# Altium schematic symbol library CS_Schlib1.SchLib: 64 symbols
Pins are listed as number, name and electrical type; pins without a type are passive.

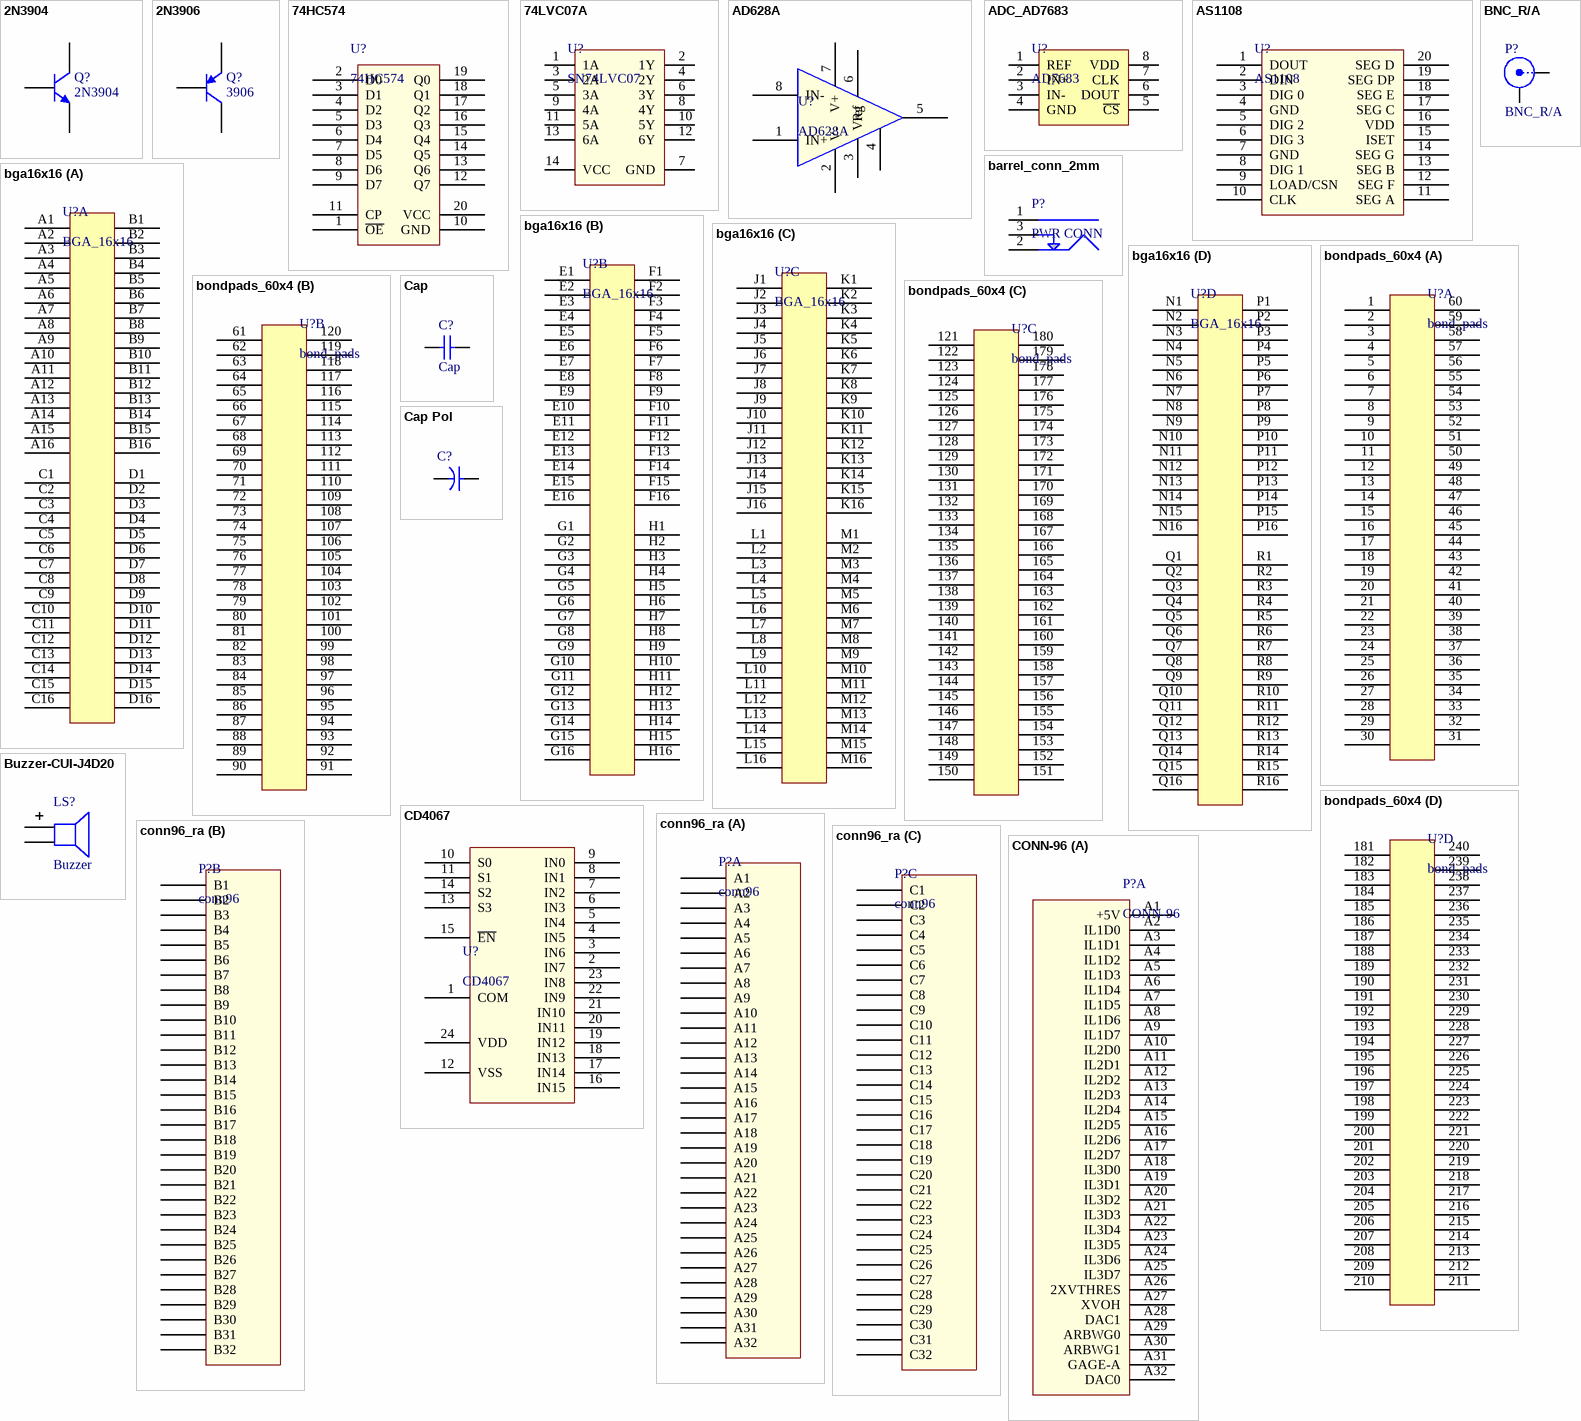
[diagram p0: symbols 2N3904 to CONN-96]

## 2N3904
designator Q?
TRANS NPN 40V 0.2A SOT23; manufacturer: Micro Commercial Co; manufacturer pn: MMBT3904-TP; supplier: digikey; supplier pn: MMBT3904TPMSCT-ND
footprint SOT-23 (Footprint not found)
pins: 1 C, 2 B, 3 E

## 2N3906
designator Q?, comment 3906
TRANS PNP 40V 0.2A SOT23; manufacturer pn: MMBT3906-TP; manufacturer: Micro Commercial Co; supplier pn: MMBT3906-TPCT-ND; supplier: digikey
footprint SOT-23
pins: 1 C, 2 B, 3 E

## 74HC574
designator U?
D-type flip-flop; Octal; manufacturer pn: 74HC574PW,118; manufacturer: Nexperia; supplier pn: 1727-4015-1-ND; supplier: digikey
pins: 1 ~{OE}, 2 D0, 3 D1, 4 D2, 5 D3, 6 D4, 7 D5, 8 D6, 9 D7, 10 GND, 11 CP, 12 Q7, 13 Q6, 14 Q5, 15 Q4, 16 Q3, 17 Q2, 18 Q1, 19 Q0, 20 VCC

## 74LVC07A
designator U?, comment SN74LVC07
IC HEX BUF NON-INVERT 5.5V 14SOIC; manufacturer: Texas Instruments; manufacturer pn: SN74LVC07ADR; supplier pn: 296-8441-1-ND; supplier: digikey
footprint SOIC-14 (SOIC, 14-Leads, Body 8.65x3.9mm, Pitch 1.27mm, IPC Medium Density)
pins: 1 1A, 2 1Y, 3 2A, 4 2Y, 5 3A, 6 3Y, 7 GND, 8 4Y, 9 4A, 10 5Y, 11 5A, 12 6Y, 13 6A, 14 VCC

## AD628A
designator U?
Current Sense Differential Amplifier 600kHz; manufacturer pn: AD628ARZ-RL; manufacturer: Analog Devices; supplier: digikey; supplier pn: AD628ARZ-RLCT-ND
footprint Model Name (Footprint not found)
pins: 1 IN+, 2 V-, 3 Vref, 4 Cf, 5 OUT, 6 Rg, 7 V+, 8 IN-

## ADC_AD7683
designator U?, comment AD7683
IC ADC 16BIT SAR 8MSOP; manufacturer pn: AD7683ARMZRL7; manufacturer: Analog Devices; supplier: digikey; supplier pn: AD7683ARMZRL7CT-ND
footprint MSOP-8
pins: 1 REF, 2 IN+, 3 IN-, 4 GND, 5 ~{CS}, 6 DOUT, 7 CLK, 8 VDD

## AS1108
designator U?
IC DRVR 7 SEGMNT 4 DIGIT 20SOIC; manufacturer: AMS; manufacturer pn: AS1108WL-T; supplier: digikey; supplier pn: AS1108WL-TCT-ND
footprint SOIC-20 (small outline integrated ciecuit 20-pin)
pins: 1 DOUT, 2 DIN, 3 DIG 0, 4 GND, 5 DIG 2, 6 DIG 3, 7 GND, 8 DIG 1, 9 LOAD/CSN, 10 CLK, 11 SEG A, 12 SEG F, 13 SEG B, 14 SEG G, 15 ISET, 16 VDD, 17 SEG C, 18 SEG E, 19 SEG DP, 20 SEG D

## barrel_conn_2mm
designator P?, comment PWR CONN
CONN PWR JACK 2X5.5MM KINKED PIN; manufacturer: CUI Int; manufacturer pn: PJ-202A; supplier: digikey; supplier pn: CP-202A-ND
footprint barrel_conn_2mm (Power Barrel connector Jack 2.0mm ID, 5.5mm OD)
pins: 1 CTR, 2 SHIELD, 3 SENSE

## bga16x16
designator U?, comment BGA_16x16
bga used in wirebonding board
footprint die_balls (pads to be balled on bottom side of die breakout board)
part A pins: A1, A2, A3, A4, A5, A6, A7, A8, A9, A10, A11, A12, A13, A14, A15, A16, B1, B2, B3, B4, B5, B6, B7, B8, B9, B10, B11, B12, B13, B14, B15, B16, C1, C2, C3, C4, C5, C6, C7, C8, C9, C10, C11, C12, C13, C14, C15, C16, D1, D2, D3, D4, D5, D6, D7, D8, D9, D10, D11, D12, D13, D14, D15, D16
part B pins: E1, E2, E3, E4, E5, E6, E7, E8, E9, E10, E11, E12, E13, E14, E15, E16, F1, F2, F3, F4, F5, F6, F7, F8, F9, F10, F11, F12, F13, F14, F15, F16, G1, G2, G3, G4, G5, G6, G7, G8, G9, G10, G11, G12, G13, G14, G15, G16, H1, H2, H3, H4, H5, H6, H7, H8, H9, H10, H11, H12, H13, H14, H15, H16
part C pins: J1, J2, J3, J4, J5, J6, J7, J8, J9, J10, J11, J12, J13, J14, J15, J16, K1, K2, K3, K4, K5, K6, K7, K8, K9, K10, K11, K12, K13, K14, K15, K16, L1, L2, L3, L4, L5, L6, L7, L8, L9, L10, L11, L12, L13, L14, L15, L16, M1, M2, M3, M4, M5, M6, M7, M8, M9, M10, M11, M12, M13, M14, M15, M16
part D pins: N1, N2, N3, N4, N5, N6, N7, N8, N9, N10, N11, N12, N13, N14, N15, N16, P1, P2, P3, P4, P5, P6, P7, P8, P9, P10, P11, P12, P13, P14, P15, P16, Q1, Q2, Q3, Q4, Q5, Q6, Q7, Q8, Q9, Q10, Q11, Q12, Q13, Q14, Q15, Q16, R1, R2, R3, R4, R5, R6, R7, R8, R9, R10, R11, R12, R13, R14, R15, R16

## BNC_R/A
designator P?
CONN BNC RCPT R/A 50 OHM PCB; manufacturer: Molex; manufacturer pn: 0731375003; supplier: digikey; supplier pn: WM5514-ND
footprint BNC_R/A (Right Angle BNC Connector PCB Mount)
pins: 1 PIN, 2 SHIELD

## bondpads_60x4
designator U?, comment bond_pads
wirebond pads 3mil x 5mil arranged in a square
footprint wirebond_pads_4x60 (group of 4x60 wirebond pads 5mil wide, 3mil high, 3mil spacing)
part A pins: 1, 2, 3, 4, 5, 6, 7, 8, 9, 10, 11, 12, 13, 14, 15, 16, 17, 18, 19, 20, 21, 22, 23, 24, 25, 26, 27, 28, 29, 30, 31, 32, 33, 34, 35, 36, 37, 38, 39, 40, 41, 42, 43, 44, 45, 46, 47, 48, 49, 50, 51, 52, 53, 54, 55, 56, 57, 58, 59, 60
part B pins: 61, 62, 63, 64, 65, 66, 67, 68, 69, 70, 71, 72, 73, 74, 75, 76, 77, 78, 79, 80, 81, 82, 83, 84, 85, 86, 87, 88, 89, 90, 91, 92, 93, 94, 95, 96, 97, 98, 99, 100, 101, 102, 103, 104, 105, 106, 107, 108, 109, 110, 111, 112, 113, 114, 115, 116, 117, 118, 119, 120
part C pins: 121, 122, 123, 124, 125, 126, 127, 128, 129, 130, 131, 132, 133, 134, 135, 136, 137, 138, 139, 140, 141, 142, 143, 144, 145, 146, 147, 148, 149, 150, 151, 152, 153, 154, 155, 156, 157, 158, 159, 160, 161, 162, 163, 164, 165, 166, 167, 168, 169, 170, 171, 172, 173, 174, 175, 176, 177, 178, 179, 180
part D pins: 181, 182, 183, 184, 185, 186, 187, 188, 189, 190, 191, 192, 193, 194, 195, 196, 197, 198, 199, 200, 201, 202, 203, 204, 205, 206, 207, 208, 209, 210, 211, 212, 213, 214, 215, 216, 217, 218, 219, 220, 221, 222, 223, 224, 225, 226, 227, 228, 229, 230, 231, 232, 233, 234, 235, 236, 237, 238, 239, 240

## Buzzer-CUI-J4D20
designator LS?, comment Buzzer
AUDIO MAGNETIC XDCR 3-5V SMD; manufacturer: CUI Devices; manufacturer pn: CSS-J4D20-SMT-TR; supplier pn: 102-1198-1-ND; supplier: digikey
footprint Buzzer_J4D20 (AUDIO MAGNETIC XDCR 3-5V SMD)
pins: 1, 2

## Cap
designator C?
Cap NP
pins: 1, 2

## Cap Pol
designator C?, comment CapPol  (value not drawn)
Cap Polarized
footprint RB7.6-15 (Polarized Capacitor (Radial); 2 Leads)
simulation model CAP (Capacitor)
signal-integrity model Cap Pol
pins: 1, 2
1 alternate drawing of the same symbol

## CD4067
designator U?
IC MUX/DEMUX 1X16 24TSSOP; manufacturer: Texas Instruments; manufacturer pn: CD4067BPWR; supplier: digikey; supplier pn: 296-44349-1-ND
pins: 1 COM, 2 IN7, 3 IN6, 4 IN5, 5 IN4, 6 IN3, 7 IN2, 8 IN1, 9 IN0, 10 S0, 11 S1, 12 VSS, 13 S3, 14 S2, 15 ~{EN}, 16 IN15, 17 IN14, 18 IN13, 19 IN12, 20 IN11, 21 IN10, 22 IN9, 23 IN8, 24 VDD

## conn96_ra
designator P?, comment conn96
connector 96-pin right angle 32x3; manufacturer pn: RE96MSR-062; manufacturer: Vector Electronics; supplier pn: V1235-ND; supplier: digikey
footprint conn-96_RA (96-pin connector, 3 rows, right angle)
part A pins: A1, A2, A3, A4, A5, A6, A7, A8, A9, A10, A11, A12, A13, A14, A15, A16, A17, A18, A19, A20, A21, A22, A23, A24, A25, A26, A27, A28, A29, A30, A31, A32
part B pins: B1, B2, B3, B4, B5, B6, B7, B8, B9, B10, B11, B12, B13, B14, B15, B16, B17, B18, B19, B20, B21, B22, B23, B24, B25, B26, B27, B28, B29, B30, B31, B32
part C pins: C1, C2, C3, C4, C5, C6, C7, C8, C9, C10, C11, C12, C13, C14, C15, C16, C17, C18, C19, C20, C21, C22, C23, C24, C25, C26, C27, C28, C29, C30, C31, C32

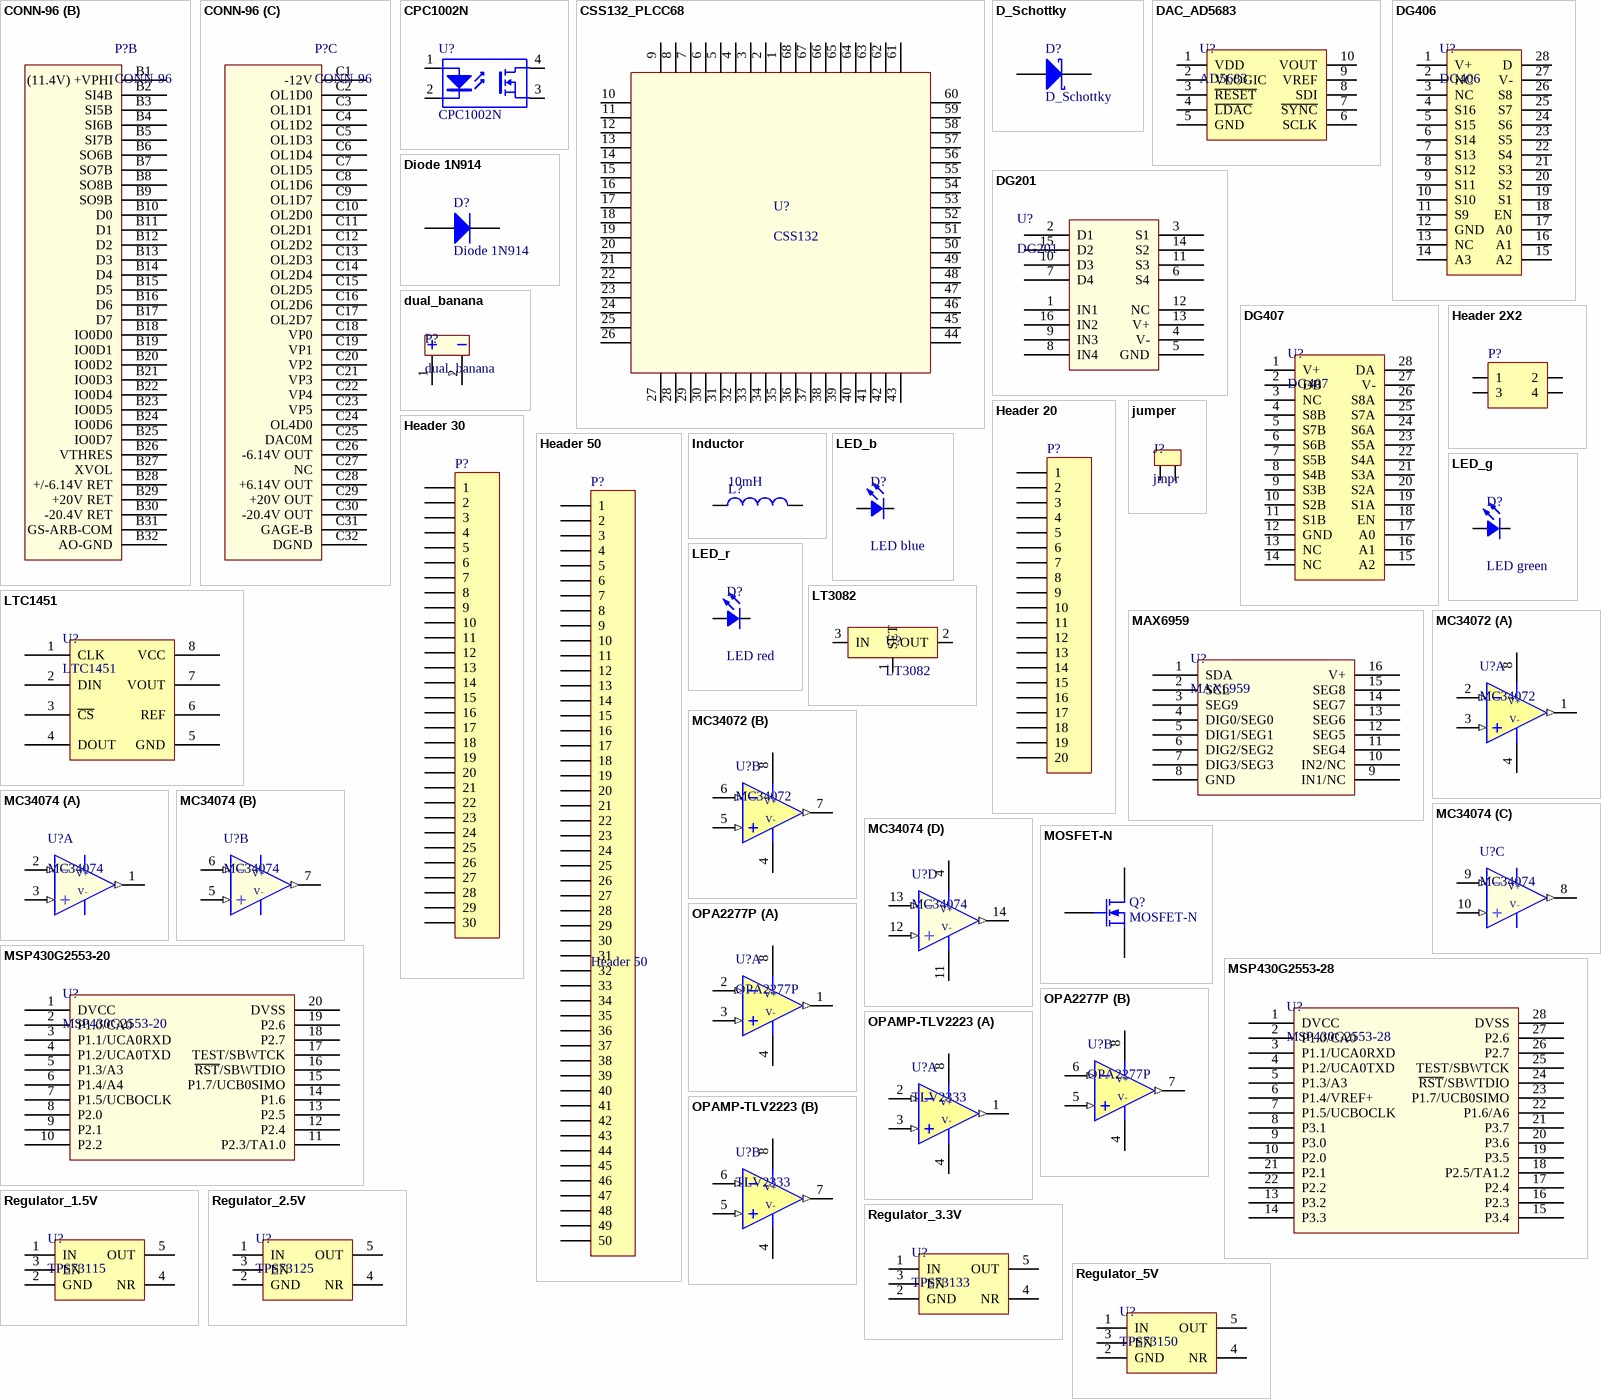
[diagram p1: symbols CONN-96 to Regulator_5V]

## CONN-96
designator P?
connector 96-pin male right angle 32x3; manufacturer pn: RE96MSR-062; manufacturer: Vector Electronics; supplier pn: V1235-ND; supplier: digikey
footprint conn-96_RA (96-pin connector, 3 rows, right angle)
part A pins: A1 +5V, A2 IL1D0, A3 IL1D1, A4 IL1D2, A5 IL1D3, A6 IL1D4, A7 IL1D5, A8 IL1D6, A9 IL1D7, A10 IL2D0, A11 IL2D1, A12 IL2D2, A13 IL2D3, A14 IL2D4, A15 IL2D5, A16 IL2D6, A17 IL2D7, A18 IL3D0, A19 IL3D1, A20 IL3D2, A21 IL3D3, A22 IL3D4, A23 IL3D5, A24 IL3D6, A25 IL3D7, A26 2XVTHRES, A27 XVOH, A28 DAC1, A29 ARBWG0, A30 ARBWG1, A31 GAGE-A, A32 DAC0
part B pins: B1 (11.4V) +VPHI, B2 SI4B, B3 SI5B, B4 SI6B, B5 SI7B, B6 SO6B, B7 SO7B, B8 SO8B, B9 SO9B, B10 D0, B11 D1, B12 D2, B13 D3, B14 D4, B15 D5, B16 D6, B17 D7, B18 IO0D0, B19 IO0D1, B20 IO0D2, B21 IO0D3, B22 IO0D4, B23 IO0D5, B24 IO0D6, B25 IO0D7, B26 VTHRES, B27 XVOL, B28 +/-6.14V RET, B29 +20V RET, B30 -20.4V RET, B31 GS-ARB-COM, B32 AO-GND
part C pins: C1 -12V, C2 OL1D0, C3 OL1D1, C4 OL1D2, C5 OL1D3, C6 OL1D4, C7 OL1D5, C8 OL1D6, C9 OL1D7, C10 OL2D0, C11 OL2D1, C12 OL2D2, C13 OL2D3, C14 OL2D4, C15 OL2D5, C16 OL2D6, C17 OL2D7, C18 VP0, C19 VP1, C20 VP2, C21 VP3, C22 VP4, C23 VP5, C24 OL4D0, C25 DAC0M, C26 -6.14V OUT, C27 NC, C28 +6.14V OUT, C29 +20V OUT, C30 -20.4V OUT, C31 GAGE-B, C32 DGND

## CPC1002N
designator U?
4-Pin Phototransistor Optocoupler; manufacturer: IXYS; supplier pn: CLA221-ND; supplier: digikey; manufacturer pn: CPC1002N
pins: 1 A "Anode", 2 K "Cathode", 3 S "Emitter", 4 D "Collector"

## CSS132_PLCC68
designator U?, comment CSS132
CSS132 gyro ic in a PLCC68 prototyping package; manufacturer: Kyocera Corp; manufacturer pn: CCJ06828; supplier pn: CCJ06828; supplier: Spectrum Semiconductor
footprint socket_PLCC68 (68-pin thru-hole socket for PLCC package)
pins: 1, 2, 3, 4, 5, 6, 7, 8, 9, 10, 11, 12, 13, 14, 15, 16, 17, 18, 19, 20, 21, 22, 23, 24, 25, 26, 27, 28, 29, 30, 31, 32, 33, 34, 35, 36, 37, 38, 39, 40, 41, 42, 43, 44, 45, 46, 47, 48, 49, 50, 51, 52, 53, 54, 55, 56, 57, 58, 59, 60, 61, 62, 63, 64, 65, 66, 67, 68

## D_Schottky
designator D?
DIODE SCHOTTKY 100V 200MA SOD523; manufacturer: Diodes Inc.; manufacturer pn: BAT41KFILM; supplier: digikey; supplier pn: 497-5556-1-ND
footprint SOD-523 (surface mount diode)
pins: 1 A, 2 K

## DAC_AD5683
designator U?, comment AD5683
IC DAC 16BIT V-OUT 10MSOP; manufacturer: Analog Devices; manufacturer pn: AD5683RBRMZ-RL7; supplier: digikey; supplier pn: AD5683RBRMZ-RL7CT-ND
footprint MSOP-10
pins: 1 VDD, 2 VLOGIC, 3 ~{RESET}, 4 ~{LDAC}, 5 GND, 6 SCLK, 7 ~{SYNC}, 8 SDI, 9 VREF, 10 VOUT

## DG201
designator U?
IC SWITCH QUAD SPST 16SOIC; manufacturer: Vishay Siliconix; manufacturer pn: DG201BDY-T1-E3; supplier: digikey; supplier pn: DG201BDY-T1-E3CT-ND
pins: 1 IN1, 2 D1, 3 S1, 4 V-, 5 GND, 6 S4, 7 D4, 8 IN4, 9 IN3, 10 D3, 11 S3, 12 NC, 13 V+, 14 S2, 15 D2, 16 IN2

## DG406
designator U?
IC MULTIPLEXER 16X1 28SOIC; manufacturer: Renesas Electronics; manufacturer pn: DG406DYZ-T; supplier: digikey; supplier pn: DG406DYZ-TCT-ND
footprint SOIC-28
pins: 1 V+, 2 NC, 3 NC, 4 S16, 5 S15, 6 S14, 7 S13, 8 S12, 9 S11, 10 S10, 11 S9, 12 GND, 13 NC, 14 A3, 15 A2, 16 A1, 17 A0, 18 EN, 19 S1, 20 S2, 21 S3, 22 S4, 23 S5, 24 S6, 25 S7, 26 S8, 27 V-, 28 D

## DG407
designator U?
IC MULTIPLEXER DUAL 8X1 28SOIC; manufacturer: Renesas Electronics; manufacturer pn: DG407DYZ; supplier: digikey; supplier pn: DG407DYZ-ND
footprint SOIC-28
pins: 1 V+, 2 DB, 3 NC, 4 S8B, 5 S7B, 6 S6B, 7 S5B, 8 S4B, 9 S3B, 10 S2B, 11 S1B, 12 GND, 13 NC, 14 NC, 15 A2, 16 A1, 17 A0, 18 EN, 19 S1A, 20 S2A, 21 S3A, 22 S4A, 23 S5A, 24 S6A, 25 S7A, 26 S8A, 27 V-, 28 DA

## Diode 1N914
designator D?
DIODE GEN PURP 100V 200MA SOT23; manufacturer: On Semiconductor; manufacturer pn: MMBD914LT3G; supplier pn: MMBD914LT3GOSCT-ND; supplier: digikey
footprint SOT-23
simulation model 1N914 (DIODE)
pins: 1 K, 2 A

## dual_banana
designator P?
dual banana jack; bolt-on; manufacturer: Mueller Electric Co; manufacturer pn: BU-P2269; supplier: digikey; supplier pn: 314-1204-ND
pins: 1, 2

## Header 2X2
designator P?
Header, 2-Pin, Dual row; LatestRevisionDate: 17-Jul-2002; LatestRevisionNote: Re-released for DXP Platform.; Publisher: Altium Limited
footprint HDR2X2 (Connector; Header; 2x2 Position)
signal-integrity model Connector
pins: 1, 2, 3, 4

## Header 20
designator P?
Header, 20-Pin; LatestRevisionDate: 17-Jul-2002; LatestRevisionNote: Re-released for DXP Platform.; Publisher: Altium Limited
footprint HDR1X20 (Connector; Header; 20 Position)
signal-integrity model Connector
pins: 1, 2, 3, 4, 5, 6, 7, 8, 9, 10, 11, 12, 13, 14, 15, 16, 17, 18, 19, 20

## Header 30
designator P?
Header, 30-Pin; LatestRevisionDate: 17-Jul-2002; LatestRevisionNote: Re-released for DXP Platform.; Publisher: Altium Limited
footprint HDR1X30 (Connector; Header; 30 Position)
signal-integrity model Connector
pins: 1, 2, 3, 4, 5, 6, 7, 8, 9, 10, 11, 12, 13, 14, 15, 16, 17, 18, 19, 20, 21, 22, 23, 24, 25, 26, 27, 28, 29, 30

## Header 50
designator P?
Header, 50-Pin; LatestRevisionDate: 17-Jul-2002; LatestRevisionNote: Re-released for DXP Platform.; Publisher: Altium Limited
footprint HDR1X30 (Connector; Header; 30 Position)
signal-integrity model Connector
pins: 1, 2, 3, 4, 5, 6, 7, 8, 9, 10, 11, 12, 13, 14, 15, 16, 17, 18, 19, 20, 21, 22, 23, 24, 25, 26, 27, 28, 29, 30, 31, 32, 33, 34, 35, 36, 37, 38, 39, 40, 41, 42, 43, 44, 45, 46, 47, 48, 49, 50

## Inductor
designator L?  value 10mH  (hidden comment: Inductor)
pins: 1, 2

## jumper
designator J?, comment jmpr
2-pin jumper
pins: 1, 2

## LED_b
designator D?, comment LED blue
LED BLUE CLEAR 0603 SMD; manufacturer: Wurth Electronics Inc; manufacturer pn: 150060GS75000; supplier: digikey; supplier pn: 732-4971-1-ND
footprint 0603_d (0603 diode, cathode on pin2)
pins: 1 A, 2 K

## LED_g
designator D?, comment LED green
LED GREEN CLEAR 0603 SMD; manufacturer: Wurth Electronics Inc; manufacturer pn: 150060GS75000; Ibias: ?mA; supplier: digikey; supplier pn: 732-4971-1-ND
footprint 0603_d (0603 diode, cathode on pin2)
pins: 1 A, 2 K

## LED_r
designator D?, comment LED red
LED RED CLEAR 0603 SMD; manufacturer: Wurth Electronics Inc; manufacturer pn: 150060RS75000; supplier: digikey; supplier pn: 732-4978-1-ND
footprint 0603_d (0603 diode, cathode on pin2)
pins: 1 A, 2 K

## LT3082
designator U?
IC REG LIN POS ADJ 200MA SOT223; manufacturer: Linear Technology; manufacturer pn: LT3082EST#TRPBF; supplier: digikey; supplier pn: LT3082EST#TRPBFCT-ND
pins: 1 SET, 2 OUT, 3 IN

## LTC1451
designator U?
IC D/A CONV 12BIT R-R 8-SOIC; manufacturer pn: LTC1451CS8#PBF; manufacturer: Linear Technology; supplier pn: LTC1451CS8#PBF-ND; supplier: digikey
pins: 1 CLK, 2 DIN, 3 ~{CS}, 4 DOUT, 5 GND, 6 REF, 7 VOUT, 8 VCC

## MAX6959
designator U?
IC DRVR 7 SEGMNT 4 DIGIT 16QSOP; manufacturer: Maxim Integrated; manufacturer pn: MAX6959AAEE+; supplier pn: MAX6959AAEE+-ND; supplier: digikey
footprint SOIC-16_W (SOIC 16-pin wide body)
pins: 1 SDA, 2 SCL, 3 SEG9, 4 DIG0/SEG0, 5 DIG1/SEG1, 6 DIG2/SEG2, 7 DIG3/SEG3, 8 GND, 9 IN1/NC, 10 IN2/NC, 11 SEG4, 12 SEG5, 13 SEG6, 14 SEG7, 15 SEG8, 16 V+

## MC34072
designator U?
IC OPAMP GP 4.5MHZ 8SOIC; manufacturer: ON Semiconductor; manufacturer pn: MC34072DR2G; supplier pn: MC34072DR2GOSCT-ND; supplier: digikey
footprint SOIC-8 (SOIC, 8-Leads, Pitch 1.27mm, IPC Medium Density)
part A pins: 1 OUT (out), 2 -IN (in), 3 +IN (in), 4 -VS (power), 8 +VS (power)
part B pins: 4 -VS (power), 5 +IN (in), 6 -IN (in), 7 OUT (out), 8 +VS (power)
part A text: V+; V-
part B text: V+; V-

## MC34074
designator U?
IC OPAMP GP 4.5MHZ 14SOIC; manufacturer: ON Semiconductor; manufacturer pn: MC34074VDR2G; supplier pn: MC34074VDR2GOSCT-ND; supplier: digikey
footprint SOIC-14 (SOIC, 14-Leads, Body 8.65x3.9mm, Pitch 1.27mm, IPC Medium Density)
part A pins: 1 OUT (out), 2 -IN (in), 3 +IN (in)
part B pins: 5 +IN (in), 6 -IN (in), 7 OUT (out)
part C pins: 8 OUT (out), 9 -IN (in), 10 +IN (in)
part D pins: 4 +VS (power), 11 -VS (power), 12 +IN (in), 13 -IN (in), 14 OUT (out)
part A text: V+; V-
part B text: V+; V-
part C text: V+; V-
part D text: V+; V-

## MOSFET-N
designator Q?
MOSFET N-CH 60V 0.2A; manufacturer: Toshiba; manufacturer pn: T2N7002AK,LM; supplier: digikey; supplier pn: T2N7002AKLMCT-ND
footprint SOT-23
pins: 1 D, 2 G, 3 S

## MSP430G2553-20
designator U?
IC MCU 16BIT 16KB FLASH 20TSSOP; manufacturer: Texas Instruments; manufacturer pn: MSP430G2553IPW20R; supplier: digikey; supplier pn: 296-28430-1-ND
footprint TSSOP-20
pins: 1 DVCC, 2 P1.0/CA0, 3 P1.1/UCA0RXD, 4 P1.2/UCA0TXD, 5 P1.3/A3, 6 P1.4/A4, 7 P1.5/UCBOCLK, 8 P2.0, 9 P2.1, 10 P2.2, 11 P2.3/TA1.0, 12 P2.4, 13 P2.5, 14 P1.6, 15 P1.7/UCB0SIMO, 16 ~{RST}/SBWTDIO, 17 TEST/SBWTCK, 18 P2.7, 19 P2.6, 20 DVSS

## MSP430G2553-28
designator U?
IC MCU 16BIT 16KB FLASH 28TSSOP; manufacturer: Texas Instruments; manufacturer pn: MSP430G2553IPW28R; supplier: digikey; supplier pn: 296-28431-1-ND
footprint TSSOP-28
pins: 1 DVCC, 2 P1.0/CA0, 3 P1.1/UCA0RXD, 4 P1.2/UCA0TXD, 5 P1.3/A3, 6 P1.4/VREF+, 7 P1.5/UCBOCLK, 8 P3.1, 9 P3.0, 10 P2.0, 13 P3.2, 14 P3.3, 15 P3.4, 16 P2.3, 17 P2.4, 18 P2.5/TA1.2, 19 P3.5, 20 P3.6, 21 P2.1, 21 P3.7, 22 P1.6/A6, 22 P2.2, 23 P1.7/UCB0SIMO, 24 ~{RST}/SBWTDIO, 25 TEST/SBWTCK, 26 P2.7, 27 P2.6, 28 DVSS

## OPA2277P
designator U?
IC OPAMP GP LOW OFFSET 2 CIRCUIT 8DIP; manufacturer: Texas Instruments; supplier pn: OPA2277P-ND; supplier: digikey; manufacturer pn: OPA2277P
footprint DIP-8 (Footprint not found)
part A pins: 1 OUT (out), 2 -IN (in), 3 +IN (in), 4 -VS (power), 8 +VS (power)
part B pins: 4 -VS (power), 5 +IN (in), 6 -IN (in), 7 OUT (out), 8 +VS (power)
part A text: V+; V-
part B text: V+; V-

## OPAMP-TLV2223
designator U?, comment TLV2333
IC OPAMP ZERO-DRIFT 2 CIRC 8SOIC; manufacturer: Texas Instruments; manufacturer pn: TLV2333IDR; supplier pn: 296-43772-1-ND; supplier: digikey
footprint SOIC-8 (SOIC, 8-Leads, Pitch 1.27mm, IPC Medium Density)
part A pins: 1 OUT (out), 2 -IN (in), 3 +IN (in), 4 -VS (power), 8 +VS (power)
part B pins: 4 -VS (power), 5 +IN (in), 6 -IN (in), 7 OUT (out), 8 +VS (power)
part A text: V+; V-
part B text: V+; V-

## Regulator_1.5V
designator U?, comment TPS73115
IC REG LINEAR 1.5V 150MA SOT23-5; manufacturer: Texas Instruments; manufacturer pn: TPS73115DBVR; supplier: digikey; supplier pn: 296-41769-1-ND
footprint SOT23-5
pins: 1 IN, 2 GND, 3 EN, 4 NR, 5 OUT

## Regulator_2.5V
designator U?, comment TPS73125
IC REG LINEAR 2.5V 150MA SOT23-5; manufacturer: Texas Instruments; manufacturer pn: TPS73125DBVR; supplier: digikey; supplier pn: 296-46391-1-ND
footprint SOT23-5
pins: 1 IN, 2 GND, 3 EN, 4 NR, 5 OUT

## Regulator_3.3V
designator U?, comment TPS73133
IC REG LINEAR 3.3V 150MA SOT23-5; manufacturer: Texas Instruments; manufacturer pn: TPS73133DBVR; supplier: digikey; supplier pn: 296-32553-1-ND
footprint SOT23-5
pins: 1 IN, 2 GND, 3 EN, 4 NR, 5 OUT

## Regulator_5V
designator U?, comment TPS73150
IC REG LINEAR 5V 150MA SOT23-5; manufacturer: Texas Instruments; manufacturer pn: TPS73150DBVR; supplier: digikey; supplier pn: 296-44366-1-ND
footprint SOT23-5
pins: 1 IN, 2 GND, 3 EN, 4 NR, 5 OUT

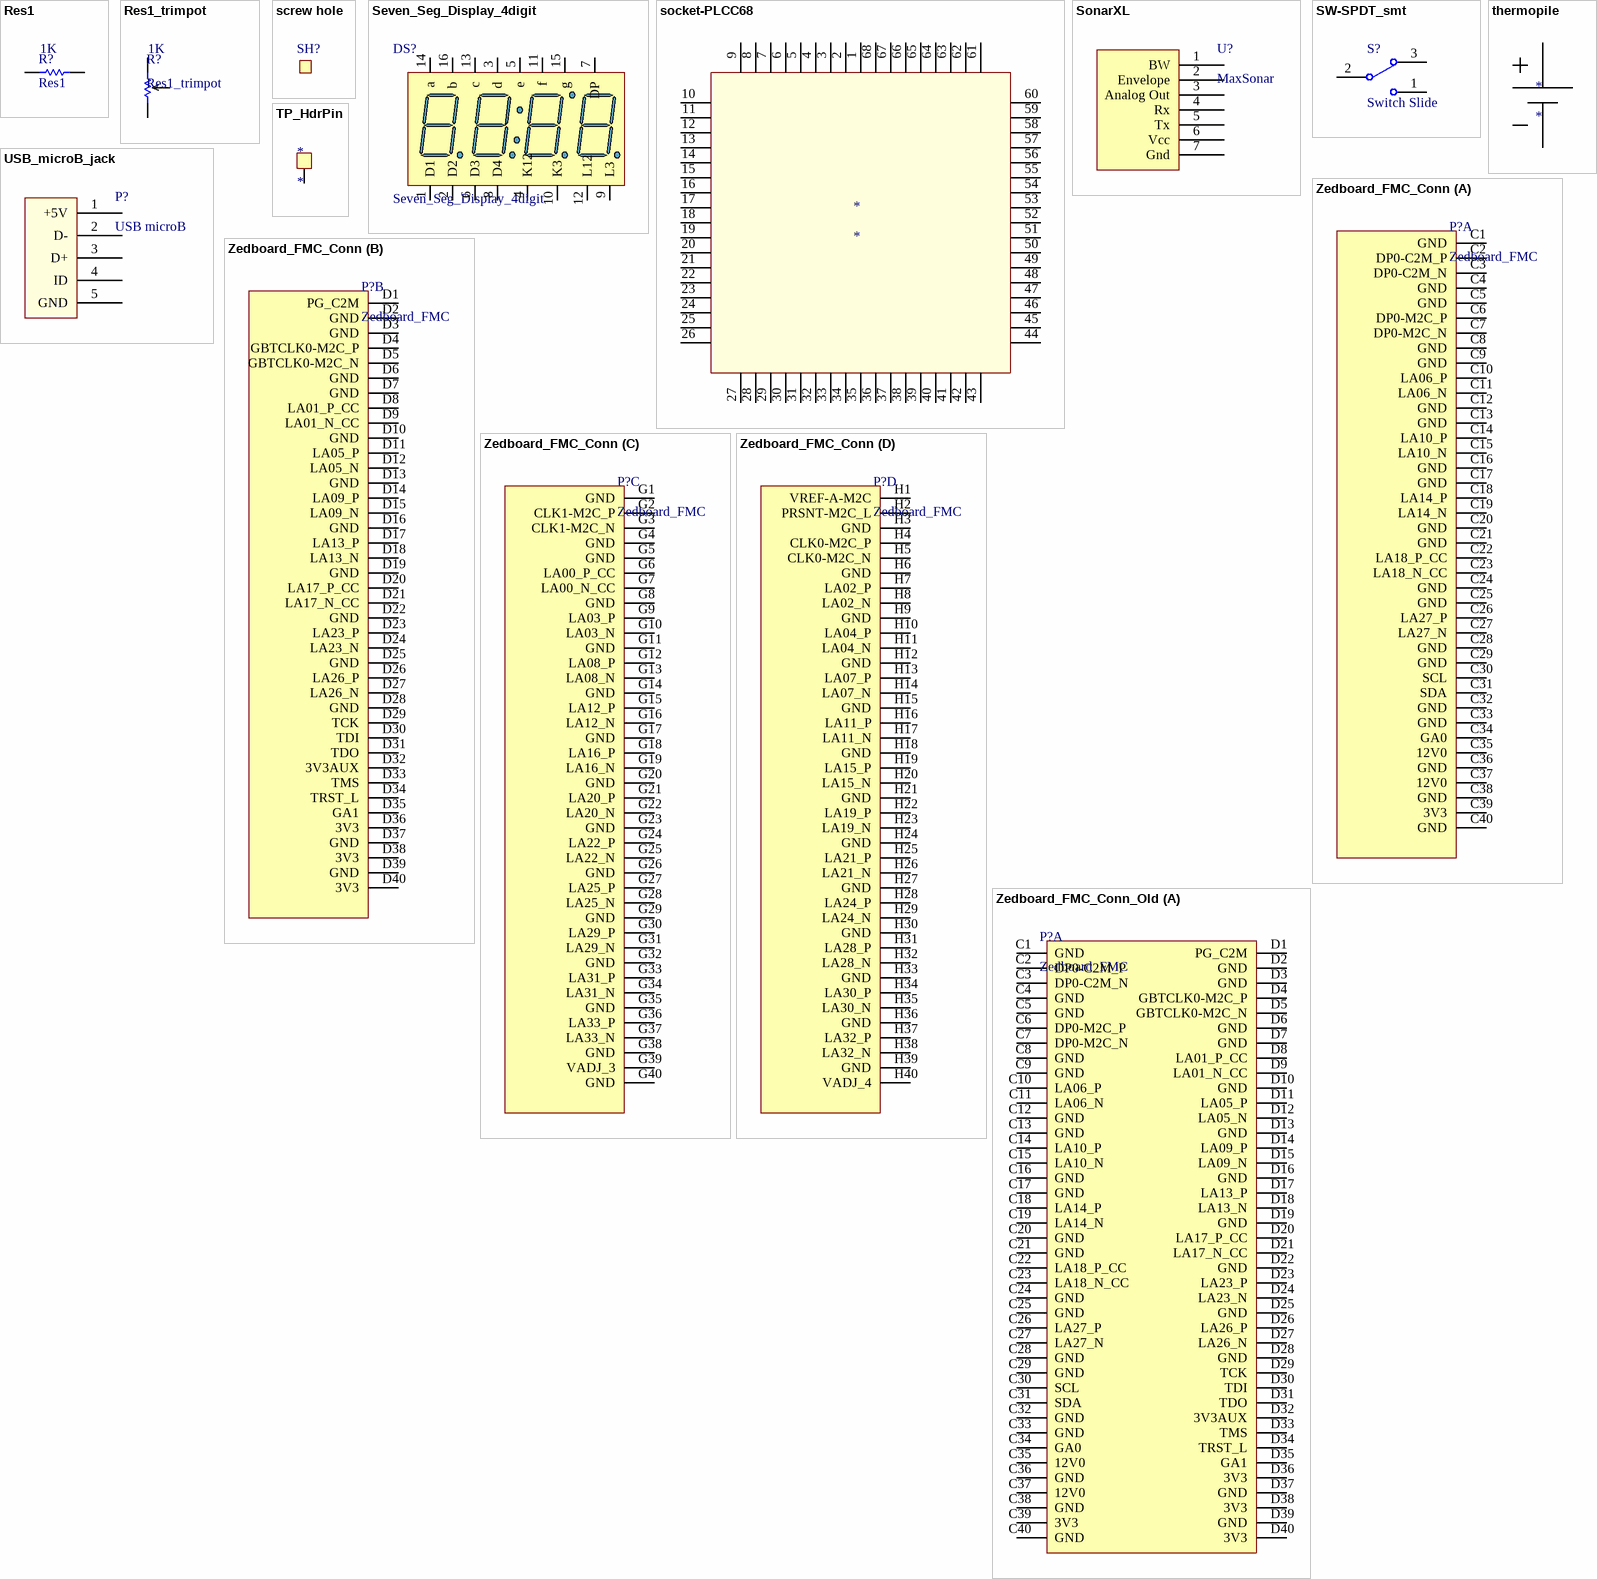
[diagram p2: symbols Res1 to Zedboard_FMC_Conn_Old]

## Res1
designator R?  value 1K
Resistor; supplier: *; supplier pn: *; manufacturer: *; manufacturer pn: *
footprint AXIAL-0.3 (Axial Device, Thru-Hole; 2 Leads; 0.3 in Pin Spacing)
simulation model RESISTOR (Resistor)
signal-integrity model Res
pins: 1, 2

## Res1_trimpot
designator R?  value 1K
Resistor; supplier: *; supplier pn: *; manufacturer: *; manufacturer pn: *
pins: 1, 2 tap, 3

## screw hole
designator SH?  (value not drawn)
schematic symbol for adding screw hole footprint

## Seven_Seg_Display_4digit
designator DS?
DISP 7SEG 0.39" QUAD RED 16DIP; manufacturer: Vishay; manufacturer pn: TDCR1060M; supplier pn: TDCR1060M-ND; supplier: digikey
simulation model HDSP_503B (SUBCKT)
footprint 7-Seg_TDC (7-segment clock display Vishay TDC series)
pins: 1 D1 "Common Cathode", 2 D2 "Common Cathode", 3 d "Anode", 4 K12 "Common Cathode", 5 e "Anode", 6 D3 "Common Cathode", 7 DP "Anode", 8 D4 "Common Cathode", 9 L3 "Common Cathode", 10 K3 "Common Cathode", 11 f "Anode", 12 L12 "Common Cathode", 13 c "Anode", 14 a "Anode", 15 g "Anode", 16 b "Anode"

## socket-PLCC68
designator *
pins: 1, 2, 3, 4, 5, 6, 7, 8, 9, 10, 11, 12, 13, 14, 15, 16, 17, 18, 19, 20, 21, 22, 23, 24, 25, 26, 27, 28, 29, 30, 31, 32, 33, 34, 35, 36, 37, 38, 39, 40, 41, 42, 43, 44, 45, 46, 47, 48, 49, 50, 51, 52, 53, 54, 55, 56, 57, 58, 59, 60, 61, 62, 63, 64, 65, 66, 67, 68

## SonarXL
designator U?, comment MaxSonar
MaxSonar High Performance Sonar Range Finder; supplier: *; supplier pn: *; manufacturer: *; manufacturer pn: *
footprint SonarXL (module for object distance sensing using sonar)
pins: 1 BW, 2 Envelope, 3 Analog Out, 4 Rx, 5 Tx, 6 Vcc, 7 Gnd

## SW-SPDT_smt
designator S?, comment Switch Slide
SWITCH SLIDE SPDT 300MA 6V; manufacturer: C&K; manufacturer pn: JS102011JCQN; supplier: digikey; supplier pn: CKN10721CT-ND
footprint switch-JS102011JCQN (surface mount slide switch C&K JS series)
pins: 1, 2, 3

## thermopile
designator *
pins: 1 +, 2 -

## TP_HdrPin
designator *
Testpoint, Header Pin
pins: 1

## USB_microB_jack
designator P?, comment USB microB
CONN RCPT USB2.0 MICRO B SMD R/A; manufacturer: Amphenol; manufacturer pn: 10118192-0001LF; supplier pn: 609-4613-1-ND; supplier: digikey
footprint USB_microB_jack (pcb mount USB micro B jack)
pins: 1 +5V, 2 D-, 3 D+, 4 ID, 5 GND

## Zedboard_FMC_Conn
designator P?, comment Zedboard_FMC
FMC Connector 160POS SMD VITA 57.1; manufacturer: Samtech Inc; manufacturer pn: ASP-134604-01X; supplier: digikey; supplier pn: SAM8732CT-ND
footprint FMC_LPC (FMC low pin count connector that mates to Xilinx zedboard)
part A pins: C1 GND, C2 DP0-C2M_P, C3 DP0-C2M_N, C4 GND, C5 GND, C6 DP0-M2C_P, C7 DP0-M2C_N, C8 GND, C9 GND, C10 LA06_P, C11 LA06_N, C12 GND, C13 GND, C14 LA10_P, C15 LA10_N, C16 GND, C17 GND, C18 LA14_P, C19 LA14_N, C20 GND, C21 GND, C22 LA18_P_CC, C23 LA18_N_CC, C24 GND, C25 GND, C26 LA27_P, C27 LA27_N, C28 GND, C29 GND, C30 SCL, C31 SDA, C32 GND, C33 GND, C34 GA0, C35 12V0, C36 GND, C37 12V0, C38 GND, C39 3V3, C40 GND
part B pins: D1 PG_C2M, D2 GND, D3 GND, D4 GBTCLK0-M2C_P, D5 GBTCLK0-M2C_N, D6 GND, D7 GND, D8 LA01_P_CC, D9 LA01_N_CC, D10 GND, D11 LA05_P, D12 LA05_N, D13 GND, D14 LA09_P, D15 LA09_N, D16 GND, D17 LA13_P, D18 LA13_N, D19 GND, D20 LA17_P_CC, D21 LA17_N_CC, D22 GND, D23 LA23_P, D24 LA23_N, D25 GND, D26 LA26_P, D27 LA26_N, D28 GND, D29 TCK, D30 TDI, D31 TDO, D32 3V3AUX, D33 TMS, D34 TRST_L, D35 GA1, D36 3V3, D37 GND, D38 3V3, D39 GND, D40 3V3
part C pins: G1 GND, G2 CLK1-M2C_P, G3 CLK1-M2C_N, G4 GND, G5 GND, G6 LA00_P_CC, G7 LA00_N_CC, G8 GND, G9 LA03_P, G10 LA03_N, G11 GND, G12 LA08_P, G13 LA08_N, G14 GND, G15 LA12_P, G16 LA12_N, G17 GND, G18 LA16_P, G19 LA16_N, G20 GND, G21 LA20_P, G22 LA20_N, G23 GND, G24 LA22_P, G25 LA22_N, G26 GND, G27 LA25_P, G28 LA25_N, G29 GND, G30 LA29_P, G31 LA29_N, G32 GND, G33 LA31_P, G34 LA31_N, G35 GND, G36 LA33_P, G37 LA33_N, G38 GND, G39 VADJ_3, G40 GND
part D pins: H1 VREF-A-M2C, H2 PRSNT-M2C_L, H3 GND, H4 CLK0-M2C_P, H5 CLK0-M2C_N, H6 GND, H7 LA02_P, H8 LA02_N, H9 GND, H10 LA04_P, H11 LA04_N, H12 GND, H13 LA07_P, H14 LA07_N, H15 GND, H16 LA11_P, H17 LA11_N, H18 GND, H19 LA15_P, H20 LA15_N, H21 GND, H22 LA19_P, H23 LA19_N, H24 GND, H25 LA21_P, H26 LA21_N, H27 GND, H28 LA24_P, H29 LA24_N, H30 GND, H31 LA28_P, H32 LA28_N, H33 GND, H34 LA30_P, H35 LA30_N, H36 GND, H37 LA32_P, H38 LA32_N, H39 GND, H40 VADJ_4

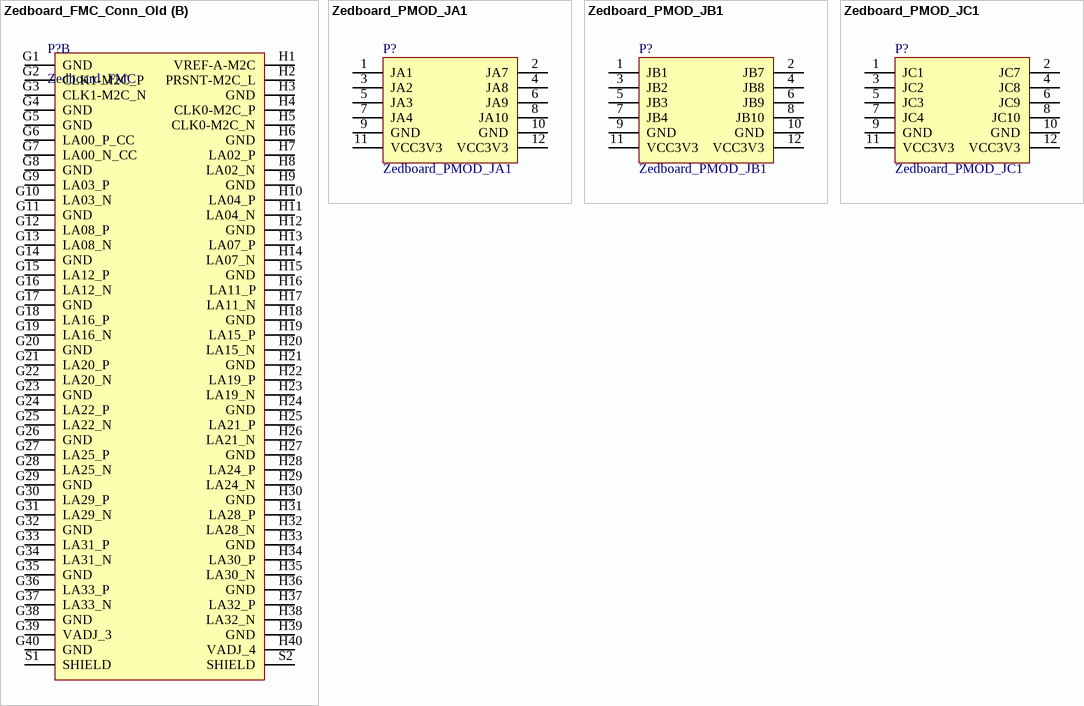
[diagram p3: symbols Zedboard_FMC_Conn_Old to Zedboard_PMOD_JC1]

## Zedboard_FMC_Conn_Old
designator P?, comment Zedboard_FMC
FMC Connector 160POS SMD VITA 57.1; manufacturer: Samtech Inc; manufacturer pn: ASP-134604-01X; supplier: digikey; supplier pn: SAM8732CT-ND
footprint FMC_LPC (FMC low pin count connector that mates to Xilinx zedboard)
part A pins: C1 GND, C2 DP0-C2M_P, C3 DP0-C2M_N, C4 GND, C5 GND, C6 DP0-M2C_P, C7 DP0-M2C_N, C8 GND, C9 GND, C10 LA06_P, C11 LA06_N, C12 GND, C13 GND, C14 LA10_P, C15 LA10_N, C16 GND, C17 GND, C18 LA14_P, C19 LA14_N, C20 GND, C21 GND, C22 LA18_P_CC, C23 LA18_N_CC, C24 GND, C25 GND, C26 LA27_P, C27 LA27_N, C28 GND, C29 GND, C30 SCL, C31 SDA, C32 GND, C33 GND, C34 GA0, C35 12V0, C36 GND, C37 12V0, C38 GND, C39 3V3, C40 GND, D1 PG_C2M, D2 GND, D3 GND, D4 GBTCLK0-M2C_P, D5 GBTCLK0-M2C_N, D6 GND, D7 GND, D8 LA01_P_CC, D9 LA01_N_CC, D10 GND, D11 LA05_P, D12 LA05_N, D13 GND, D14 LA09_P, D15 LA09_N, D16 GND, D17 LA13_P, D18 LA13_N, D19 GND, D20 LA17_P_CC, D21 LA17_N_CC, D22 GND, D23 LA23_P, D24 LA23_N, D25 GND, D26 LA26_P, D27 LA26_N, D28 GND, D29 TCK, D30 TDI, D31 TDO, D32 3V3AUX, D33 TMS, D34 TRST_L, D35 GA1, D36 3V3, D37 GND, D38 3V3, D39 GND, D40 3V3
part B pins: G1 GND, G2 CLK1-M2C_P, G3 CLK1-M2C_N, G4 GND, G5 GND, G6 LA00_P_CC, G7 LA00_N_CC, G8 GND, G9 LA03_P, G10 LA03_N, G11 GND, G12 LA08_P, G13 LA08_N, G14 GND, G15 LA12_P, G16 LA12_N, G17 GND, G18 LA16_P, G19 LA16_N, G20 GND, G21 LA20_P, G22 LA20_N, G23 GND, G24 LA22_P, G25 LA22_N, G26 GND, G27 LA25_P, G28 LA25_N, G29 GND, G30 LA29_P, G31 LA29_N, G32 GND, G33 LA31_P, G34 LA31_N, G35 GND, G36 LA33_P, G37 LA33_N, G38 GND, G39 VADJ_3, G40 GND, H1 VREF-A-M2C, H2 PRSNT-M2C_L, H3 GND, H4 CLK0-M2C_P, H5 CLK0-M2C_N, H6 GND, H7 LA02_P, H8 LA02_N, H9 GND, H10 LA04_P, H11 LA04_N, H12 GND, H13 LA07_P, H14 LA07_N, H15 GND, H16 LA11_P, H17 LA11_N, H18 GND, H19 LA15_P, H20 LA15_N, H21 GND, H22 LA19_P, H23 LA19_N, H24 GND, H25 LA21_P, H26 LA21_N, H27 GND, H28 LA24_P, H29 LA24_N, H30 GND, H31 LA28_P, H32 LA28_N, H33 GND, H34 LA30_P, H35 LA30_N, H36 GND, H37 LA32_P, H38 LA32_N, H39 GND, H40 VADJ_4, S1 SHIELD, S2 SHIELD

## Zedboard_PMOD_JA1
designator P?
Zedboard PMOD Header JA1, 6-Pin, Dual row; LatestRevisionDate: 17-Jul-2002; LatestRevisionNote: Re-released for DXP Platform.; Publisher: Altium Limited
footprint HDR2X6 (Connector; Header; 6x2 Position)
signal-integrity model Connector
pins: 1 JA1, 2 JA7, 3 JA2, 4 JA8, 5 JA3, 6 JA9, 7 JA4, 8 JA10, 9 GND, 10 GND, 11 VCC3V3, 12 VCC3V3

## Zedboard_PMOD_JB1
designator P?
Zedboard PMOD Header JB1, 6-Pin, Dual row; LatestRevisionDate: 17-Jul-2002; LatestRevisionNote: Re-released for DXP Platform.; Publisher: Altium Limited
footprint HDR2X6 (Connector; Header; 6x2 Position)
signal-integrity model Connector
pins: 1 JB1, 2 JB7, 3 JB2, 4 JB8, 5 JB3, 6 JB9, 7 JB4, 8 JB10, 9 GND, 10 GND, 11 VCC3V3, 12 VCC3V3

## Zedboard_PMOD_JC1
designator P?
Zedboard PMOD Header JC1, 6-Pin, Dual row; LatestRevisionDate: 17-Jul-2002; LatestRevisionNote: Re-released for DXP Platform.; Publisher: Altium Limited
footprint HDR2X6 (Connector; Header; 6x2 Position)
signal-integrity model Connector
pins: 1 JC1, 2 JC7, 3 JC2, 4 JC8, 5 JC3, 6 JC9, 7 JC4, 8 JC10, 9 GND, 10 GND, 11 VCC3V3, 12 VCC3V3